# EAGLE library part NJM2752RB2-TE1 (library Deegou_IC)
IC AUDIO SW 2-IN/1-OUT 10TVSP Source: Datasheet <https://www.njr.com/semicon/PDF/NJM2752_E.pdf>
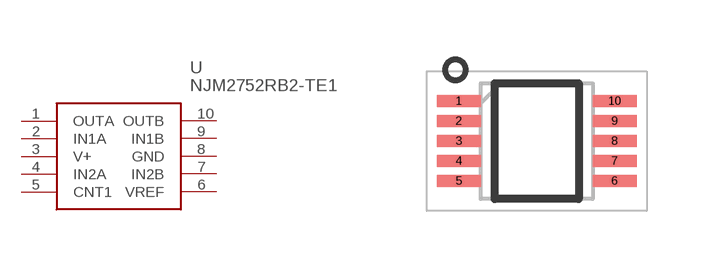
[diagram p135: symbol with the pads of SOP50P400X100-10N; footprint SOP50P400X100-10N]

Designator prefix U

## NJM2752RB2-TE1 (ARROW_PART_NUMBER: NJM2752RB2-TE1; DESCRIPTION: IC AUDIO SW 2-IN/1-OUT 10TVSP; HEIGHT: 1mm; MANUFACTURER_NAME: NJR; MANUFACTURER_PART_NUMBER: NJM2752RB2-TE1)  [SOP50P400X100-10N]
1  OUTA
2  IN1A
3  V+
4  IN2A
5  CNT1
6  VREF
7  IN2B
8  GND
9  IN1B
10  OUTB

## Footprint SOP50P400X100-10N (pad centres in mm)
MSOP10(TVSP10)
smd 1.1 x 0.3: 1 -1.95,1; 2 -1.95,0.5; 3 -1.95,0; 4 -1.95,-0.5; 5 -1.95,-1; 6 1.95,-1; 7 1.95,-0.5; 8 1.95,0; 9 1.95,0.5; 10 1.95,1